# Altium integrated library 100uF_50v.IntLib: 1 symbol
Pins are listed as number, name and electrical type; pins without a type are passive.

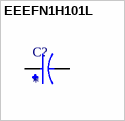
[diagram p0: symbol EEEFN1H101L]

## EEEFN1H101L
designator C?
CAP ALUM 100UF 20% 50V SMD; MF: Panasonic; MP: EEEFN1H101L; SnapEDA_Link: https://www.snapeda.com/parts/EEEFN1H101L/Panasonic/view-part/?ref=snap; Package: RADIAL-2 Panasonic; Value: *; Check_prices: https://www.snapeda.com/parts/EEEFN1H101L/Panasonic/view-part/?ref=eda
footprint CAP_EEEFN1H101L
pins: 1, 2